# Altium schematic symbol library MP4245.SchLib: 1 symbol
Pins are listed as number, name and electrical type; pins without a type are passive.

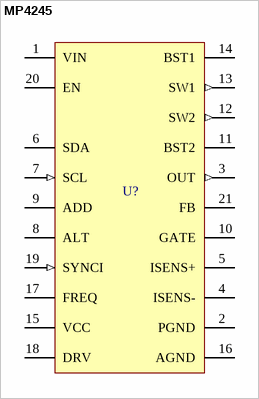
[diagram p0: symbol MP4245]

## MP4245
designator U?
36V, 6A, Buck-Boost Converter
pins: 1 VIN (power), 2 PGND (power), 3 OUT (out), 4 ISENS-, 5 ISENS+, 6 SDA, 7 SCL (in), 8 ALT (oc), 9 ADD, 10 GATE, 11 BST2 (power), 12 SW2 (out), 13 SW1 (out), 14 BST1 (power), 15 VCC (power), 16 AGND (power), 17 FREQ, 18 DRV (power), 19 SYNCI (in), 20 EN, 21 FB